# Altium schematic symbol library FCR7350G.SchLib: 2 symbols
Pins are listed as number, name and electrical type; pins without a type are passive.

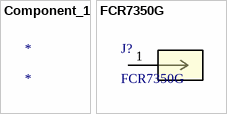
[diagram p0: symbols Component_1 to FCR7350G]

## Component_1
designator *

## FCR7350G
designator J?
No Description Available; Mfr_Name: Cliff; Copyright: Copyright (C) 2022 Ultra Librarian. All rights reserved.; Manufacturer_Part_Number: FCR7350G; RefDes: RefDes; Type: Type
footprint CONN_FCR7350G_CLF
pins: 1